# EAGLE library part ADUM140D (library parts)
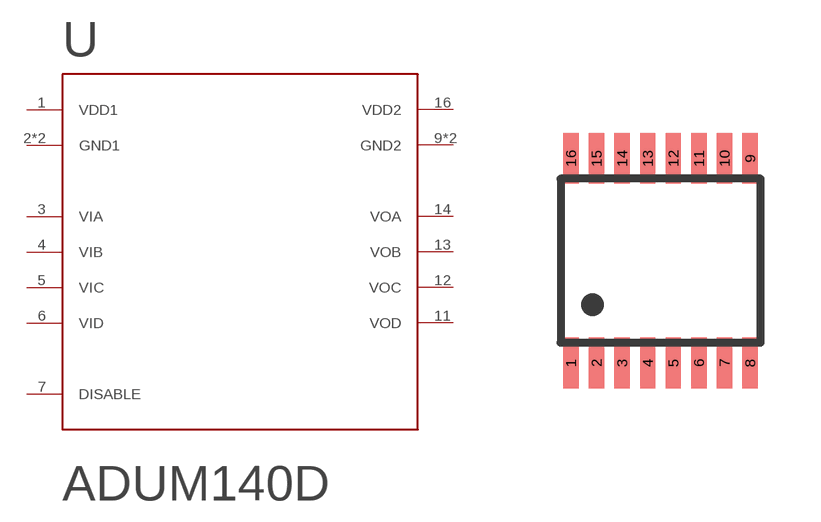
[diagram p4: symbol with the pads of QSOP16; footprint QSOP16]

Designator prefix -

## ADUM140DQSOP-16  [QSOP16]
1  VDD1
2  GND1
3  VIA
4  VIB
5  VIC
6  VID
7  DISABLE
8  GND1
9  GND2
11  VOD
12  VOC
13  VOB
14  VOA
15  GND2
16  VDD2

## Footprint QSOP16 (pad centres in mm)
16-Lead Shrink Small Outline Package QSOP (RQ-16) Source: ADG658_659.pdf
smd 0.381 x 1.27: 1 -2.24,-2.56; 2 -1.6,-2.56; 3 -0.96,-2.56; 4 -0.32,-2.56; 5 0.32,-2.56; 6 0.96,-2.56; 7 1.6,-2.56; 8 2.24,-2.56; 9 2.24,2.56; 10 1.6,2.56; 11 0.96,2.56; 12 0.32,2.56; 13 -0.32,2.56; 14 -0.96,2.56; 15 -1.6,2.56; 16 -2.24,2.56